# EAGLE library part TXB0108RGYR (library TXB0108RGYR)
8-Bit Bidirectional Voltage-Level Shifter with Auto Direction Sensing and +/-15-kV ESD Protect Source: Datasheet <http://www.ti.com/lit/gpn/txb0108>
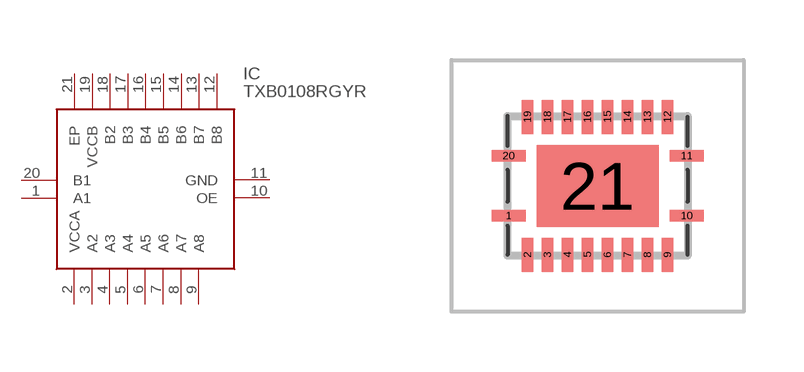
[diagram p0: symbol with the pads of SN74LVC541ARGYR; footprint SN74LVC541ARGYR]

Designator prefix IC

## TXB0108RGYR (Arrow_Part_Number: TXB0108RGYR; Arrow_Price-Stock: https://www.arrow.com/en/products/txb0108rgyr/texas-instruments.html?utm_currency=USD&region=nac; Description: 8-Bit Bidirectional Voltage-Level Shifter with Auto Direction Sensing and +/-15-kV ESD Protect; Height: 1mm; Manufacturer_Name: Texas Instruments; Manufacturer_Part_Number: TXB0108RGYR; Mouser_Part_Number: 595-TXB0108RGYR; Mouser_Price-Stock: https://www.mouser.co.uk/ProductDetail/Texas-Instruments/TXB0108RGYR?qs=oFXvjAmG9EjlwpBG6jCg6w%3D%3D)  [SN74LVC541ARGYR]
1  A1
2  VCCA
3  A2
4  A3
5  A4
6  A5
7  A6
8  A7
9  A8
10  OE
11  GND
12  B8
13  B7
14  B6
15  B5
16  B4
17  B3
18  B2
19  VCCB
20  B1
21  EP

## Footprint SN74LVC541ARGYR (pad centres in mm)
RGY (R-PVQFN-N20)
smd 0.85 x 0.28: 1 -2.225,-0.75; 10 2.225,-0.75; 11 2.225,0.75; 20 -2.225,0.75
smd 0.28 x 0.85: 2 -1.75,-1.725; 3 -1.25,-1.725; 4 -0.75,-1.725; 5 -0.25,-1.725; 6 0.25,-1.725; 7 0.75,-1.725; 8 1.25,-1.725; 9 1.75,-1.725; 12 1.75,1.725; 13 1.25,1.725; 14 0.75,1.725; 15 0.25,1.725; 16 -0.25,1.725; 17 -0.75,1.725; 18 -1.25,1.725; 19 -1.75,1.725
smd 3.05 x 2.05: 21 0,0